# Altium schematic symbol library SQP20AJB-68R.SchLib: 1 symbol
Pins are listed as number, name and electrical type; pins without a type are passive.

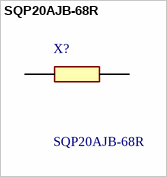
[diagram p0: symbol SQP20AJB-68R]

## SQP20AJB-68R
designator X?
68 Ohms +/-5% 20W Through Hole Resistor Axial Flame Proof, Pulse Withstanding, Safety Cement; Manufacturer_Name: Yageo Group; Mouser Part Number: 603-SQP20AJB-68R; Mouser Price/Stock: https://www.mouser.co.uk/ProductDetail/YAGEO/SQP20AJB-68R?qs=gt1LBUVyoHl26g7iELFF7A%3D%3D; Manufacturer_Part_Number: SQP20AJB-68R; Datasheet Link: https://www.yageogroup.com/content/datasheet/asset/file/YAGEO-SQP_NSP_DATASHEET
footprint RESAD11000W85L6000D1250
pins: 1, 2